# Altium footprint library SOT65P280X145-8N.PcbLib: 1 footprints
Each footprint in its own frame and in the unit in brackets; x right, y up, seen from the top. Pads: shape width x height; smd on the part's side, far side on the other; paste and mask are expansions set on the pad; w line width, h text height; cw(c..) or ccw(c..) is an arc to the next point about the centre after c.
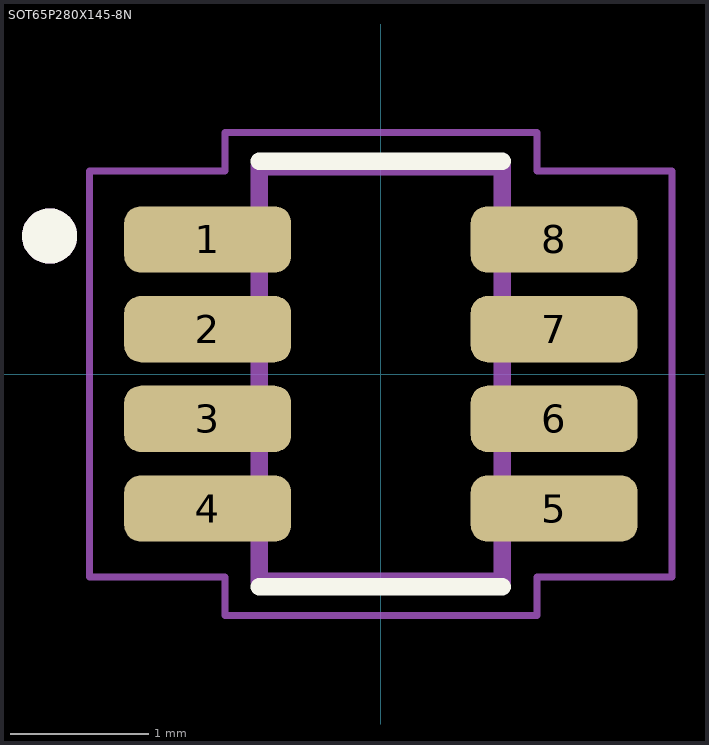
[diagram p0: the footprint, top view; thin cyan lines are the x and y axes]

## SOT65P280X145-8N [mm]
pads (8):
  rrect50% 1.21x0.48 smd: 1(-1.255,0.975) 2(-1.255,0.325) 3(-1.255,-0.325) 4(-1.255,-0.975) 5(1.255,-0.975) 6(1.255,-0.325) 7(1.255,0.325) 8(1.255,0.975)
Top Overlay:
  circle w0.2: c-2.4,1 r0.1
  lines w0.127: -0.88,-1.54 0.88,-1.54 ; -0.88,1.54 0.88,1.54
Assembly Top:
  circle w0.2: c-2.4,1 r0.1
  lines w0.127: -0.88,-1.5 -0.88,1.5 0.88,1.5 0.88,-1.5 -0.88,-1.5
Courtyard Top:
  lines w0.05: -2.11,-1.47 -1.13,-1.47 -1.13,-1.75 1.13,-1.75 1.13,-1.47 2.11,-1.47 2.11,1.47 1.13,1.47 1.13,1.75 -1.13,1.75 -1.13,1.47 -2.11,1.47 -2.11,-1.47
3D body "step_temp.STEP": height 1.45, standoff 0, extent -1.4,-1.45 1.4,1.45